# Altium schematic symbol library Connectors.SchLib: 12 symbols
Pins are listed as number, name and electrical type; pins without a type are passive.

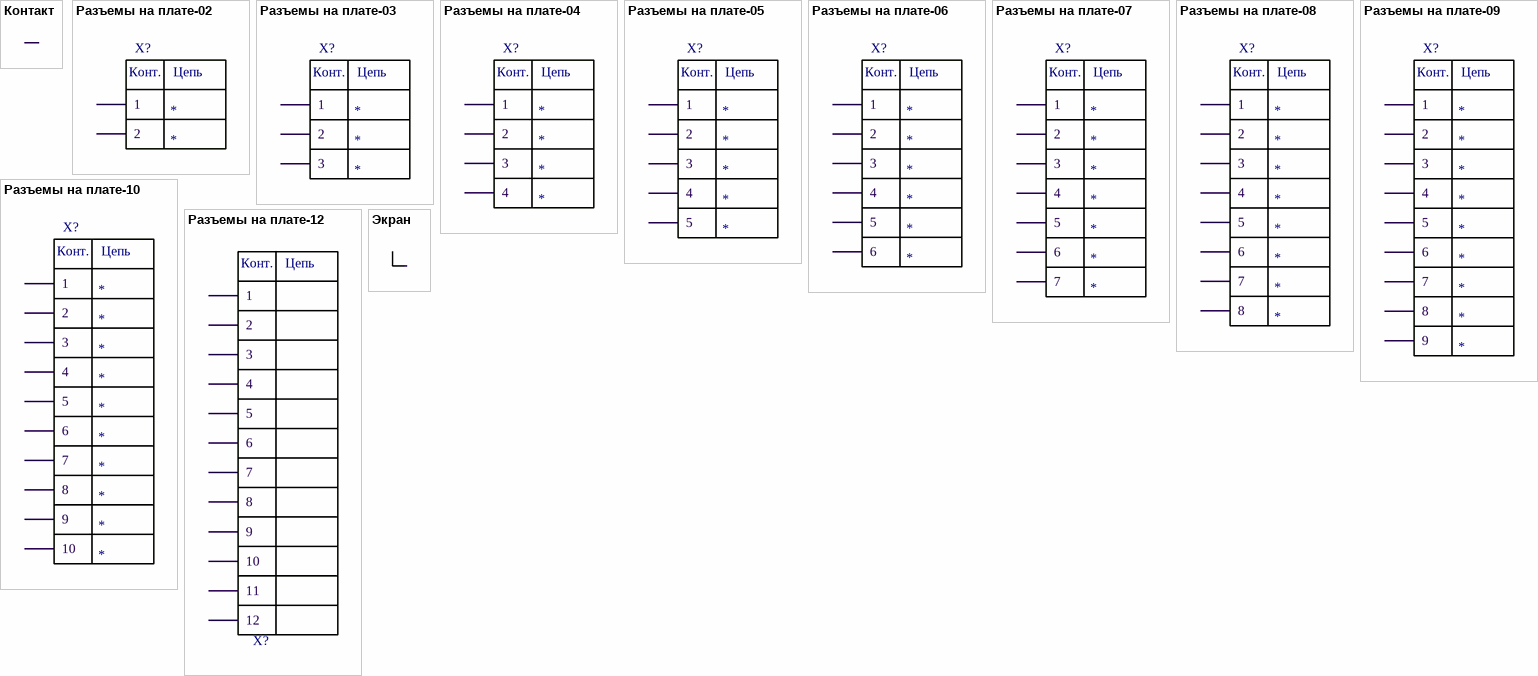
[diagram p0: symbols Контакт to Экран]

## Контакт
designator X?  (value not drawn)
Name: Контакт; Value: *
pins: 1 "Вход", 2 "Вход"

## Разъемы на плате-02
designator X?
Name: Разъем; Value: *; Конт.1: *; Конт.2: *
pins: 1 "Вход", 2 "Вход"
text: Конт.; Цепь

## Разъемы на плате-03
designator X?
Name: Разъем; Value: *; Конт.1: *; Конт.2: *; Конт.3: *
pins: 1 "Вход", 2 "Вход", 3 "Вход"
text: Конт.; Цепь

## Разъемы на плате-04
designator X?
Name: Разъем; Value: *; Конт.1: *; Конт.2: *; Конт.3: *; Конт.4: *
pins: 1 "Вход", 2 "Вход", 3 "Вход", 4 "Вход"
text: Конт.; Цепь

## Разъемы на плате-05
designator X?
Name: Разъем; Value: *; Конт.1: *; Конт.2: *; Конт.3: *; Конт.4: *; Конт.5: *
pins: 1 "Вход", 2 "Вход", 3 "Вход", 4 "Вход", 5 "Вход"
text: Конт.; Цепь

## Разъемы на плате-06
designator X?
Name: Разъем; Value: *; Конт.1: *; Конт.2: *; Конт.3: *; Конт.4: *; Конт.5: *; Конт.6: *
pins: 1 "Вход", 2 "Вход", 3 "Вход", 4 "Вход", 5 "Вход", 6 "Вход"
text: Конт.; Цепь

## Разъемы на плате-07
designator X?
Name: Разъем; Value: *; Конт.1: *; Конт.2: *; Конт.3: *; Конт.4: *; Конт.5: *; Конт.6: *; Конт.7: *
pins: 1 "Вход", 2 "Вход", 3 "Вход", 4 "Вход", 5 "Вход", 6 "Вход", 7 "Вход"
text: Конт.; Цепь

## Разъемы на плате-08
designator X?
Name: Разъем; Value: *; Конт.1: *; Конт.2: *; Конт.3: *; Конт.4: *; Конт.5: *; Конт.6: *; Конт.7: *; Конт.8: *
pins: 1 "Вход", 2 "Вход", 3 "Вход", 4 "Вход", 5 "Вход", 6 "Вход", 7 "Вход", 8 "Вход"
text: Конт.; Цепь

## Разъемы на плате-09
designator X?
Name: Разъем; Value: *; Конт.1: *; Конт.2: *; Конт.3: *; Конт.4: *; Конт.5: *; Конт.6: *; Конт.7: *; Конт.8: *; Конт.9: *
pins: 1 "Вход", 2 "Вход", 3 "Вход", 4 "Вход", 5 "Вход", 6 "Вход", 7 "Вход", 8 "Вход", 9 "Вход"
text: Конт.; Цепь

## Разъемы на плате-10
designator X?
Name: Разъем; Case: *; HelpURL: *; Manufacture: *; Model: *; Value: *; Конт.10: *; Конт.1: *; Конт.2: *; Конт.3: *; Конт.4: *; Конт.5: *; Конт.6: *; Конт.7: *; Конт.8: *; Конт.9: *
pins: 1 "Вход", 2 "Вход", 3 "Вход", 4 "Вход", 5 "Вход", 6 "Вход", 7 "Вход", 8 "Вход", 9 "Вход", 10 "Вход"
text: Конт.; Цепь

## Разъемы на плате-12
designator X?  (value not drawn)
Name: Разъем; Case: *; HelpURL: *; Manufacture: *; Model: *; Конт.11: *; Конт.10: *; Конт.1: *; Конт.2: *; Конт.3: *; Конт.4: *; Конт.5: *; Конт.6: *; Конт.7: *; Конт.8: *; Конт.9: *; Конт.12: *; Value: *
pins: 1 "Вход", 2 "Вход", 3 "Вход", 4 "Вход", 5 "Вход", 6 "Вход", 7 "Вход", 8 "Вход", 9 "Вход", 10 "Вход", 11 "Вход", 12 "Вход"
text: Конт.; Цепь

## Экран
designator X?  (value not drawn)
Name: Экран; Value: *
pins: 1 "Вход"